# Altium footprint library 1053131306.PcbLib: 1 footprints
Each footprint in its own frame and in the unit in brackets; x right, y up, seen from the top. Pads: shape width x height; smd on the part's side, far side on the other; paste and mask are expansions set on the pad; w line width, h text height; cw(c..) or ccw(c..) is an arc to the next point about the centre after c.
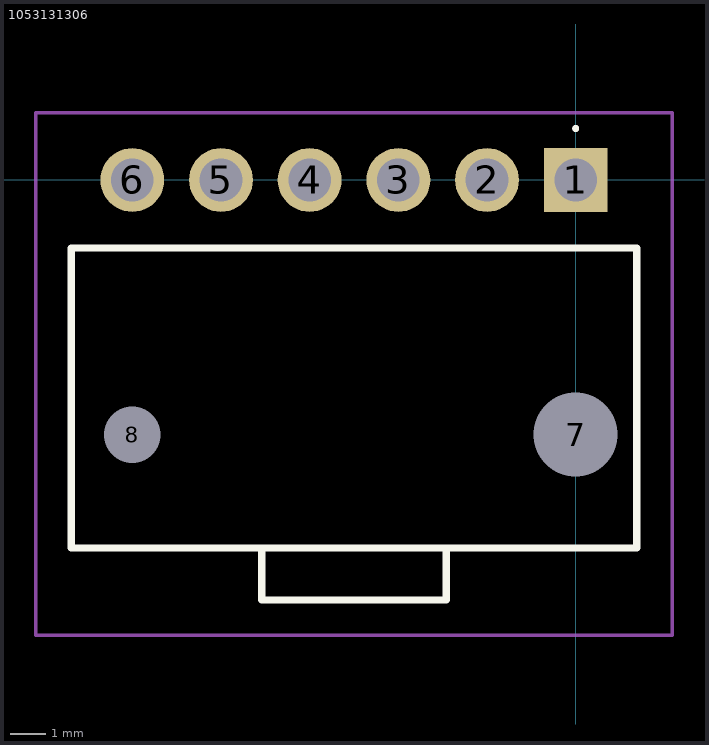
[diagram p0: the footprint, top view; thin cyan lines are the x and y axes]

## 1053131306 [mm]
pads (8):
  rect 1.8x1.8 hole 1.2: 1(0,0)
  round 1.8 hole 1.2: 2(-2.5,0) 3(-5,0) 4(-7.5,0) 5(-10,0) 6(-12.5,0)
  round 1.185 hole 2.37 unplated: 7(0,-7.18)
  round 0.8 hole 1.6 unplated: 8(-12.5,-7.18)
Top Overlay:
  lines w0.1: 0,1.4 cw(c0,1.45) 0,1.5 ; 0,1.4 0,1.4 ; 0,1.4 ccw(c0,1.45) 0,1.5 ; 0,1.5 0,1.5
  lines w0.2: -8.85,-10.38 -8.85,-11.84 -3.65,-11.84 -3.65,-10.38 ; -14.22,-10.38 1.72,-10.38 1.72,-1.92 -14.22,-1.92 -14.22,-10.38
Mechanical 15:
  lines w0.1: -8.85,-10.38 -8.85,-11.84 -3.65,-11.84 -3.65,-10.38 ; -14.22,-10.38 1.72,-10.38 1.72,-1.92 -14.22,-1.92 -14.22,-10.38
Mechanical 20:
  lines w0.1: -15.22,-12.84 2.72,-12.84 2.72,1.9 -15.22,1.9 -15.22,-12.84